# Altium schematic symbol library ERJ-S03F4700V.SchLib: 1 symbol
Pins are listed as number, name and electrical type; pins without a type are passive.

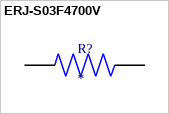
[diagram p0: symbol ERJ-S03F4700V]

## ERJ-S03F4700V
designator R?
MF: {'manufacturer': u'Panasonic'}; MP: ERJ-S03F4700V; Package: None; Value: *; Price: None; Availability: Unavailable
footprint RESC1608X55N
pins: 1, 2